# EAGLE library part AD5242 (library ekho)
AD5242: I2C-Compatible, 256-Position Digital Potentiometers The AD5241/AD5242 provide a single-/dual-channel, 256- position, digitally controlled variable resistor (VR) device. These devices perform the same electronic adjustment function as a potentiometer, trimmer, or variable resistor. Each VR offers a completely programmable value of resistance between the A terminal and the wiper, or the B terminal and the wiper. For the AD5242, the fixed A-to-B terminal resistance of 10 kΩ, 100 kΩ, or 1 MΩ has a 1% channel-to-channel matching tolerance. Zero position is 60Ω.
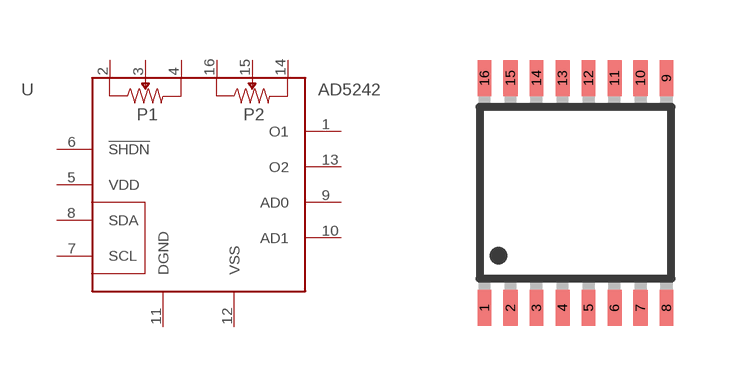
[diagram p7: symbol with the pads of TSSOP16; footprint TSSOP16]

Designator prefix U

## AD5242  [TSSOP16]
1  O1
2  A1
3  W1
4  B1
5  VDD
6  !SHDN
7  SCL
8  SDA
9  AD0
10  AD1
11  DGND
12  VSS
13  O2
14  B2
15  W2
16  A2

## Footprint TSSOP16 (pad centres in mm)
16-Lead Thin Shrink Small Outline Package [TSSOP] (RU-16) Source: 8x ADG1408_1409.pdf
smd 0.35 x 0.9: 1 -2.275,-2.875; 2 -1.625,-2.875; 3 -0.975,-2.875; 4 -0.325,-2.875; 5 0.325,-2.875; 6 0.975,-2.875; 7 1.625,-2.875; 8 2.275,-2.875; 9 2.275,2.875; 10 1.625,2.875; 11 0.975,2.875; 12 0.325,2.875; 13 -0.325,2.875; 14 -0.975,2.875; 15 -1.625,2.875; 16 -2.275,2.875